# EAGLE library part WSPR_V3_MIC9409X_MIC9409X (library KEW_HF_V16)
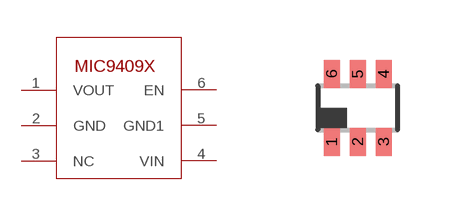
[diagram p5: symbol with the pads of WSPR_V3_MIC9409X_DCK_R-PDSO-G6; footprint WSPR_V3_MIC9409X_DCK_R-PDSO-G6]

Designator prefix -

## WSPR_V3_MIC9409X_MIC9409X  [WSPR_V3_MIC9409X_DCK_R-PDSO-G6]
1  VOUT
2  GND
3  NC
4  VIN
5  GND1
6  EN

## Footprint WSPR_V3_MIC9409X_DCK_R-PDSO-G6 (pad centres in mm)
DCK (R-PDSO-G6) PLASTIC SMALL-OUTLINE PACKAGE SOT (SC-70) - DCK Source: http://focus.ti.com/lit/ds/symlink/sn74lvc1g3157.
smd 0.4 x 0.7: 1 -0.65,-0.85; 2 0,-0.85; 3 0.65,-0.85; 4 0.65,0.85; 5 0,0.85; 6 -0.65,0.85